# Altium schematic symbol library 05E_Diode.SchLib: 3 symbols
Pins are listed as number, name and electrical type; pins without a type are passive.

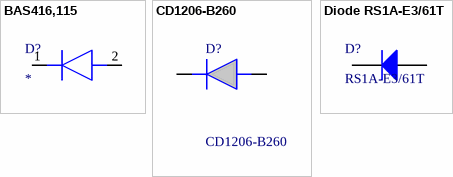
[diagram p0: symbols BAS416,115 to Diode RS1A-E3/61T]

## BAS416,115
designator D?
Diode; Manufacturer_Name: Nexperia; Manufacturer_Part_Number: BAS416,115; Datasheet Link: https://assets.nexperia.com/documents/data-sheet/BAS416.pdf; Height: 1.1mm; Mouser Part Number: 771-BAS416-T/R; Mouser Price/Stock: https://www.mouser.co.uk/ProductDetail/Nexperia/BAS416115?qs=me8TqzrmIYXN%2FT0VMI6NXg%3D%3D; Arrow Part Number: BAS416,115; Arrow Price/Stock: https://www.arrow.com/en/products/bas416115/nexperia?region=nac
footprint SOD323
pins: 1 K, 2 A

## CD1206-B260
designator D?
BOURNS - CD1206-B260 - DIODE, SCHOTTKY RECT, 60V, 2A, SMD; Geometry.Height: 1.16mm; Mouser Part Number: 652-CD1206-B260; Mouser Price/Stock: https://www.mouser.co.uk/ProductDetail/Bourns/CD1206-B260?qs=VNGG2InBe5GH7Tt0gN3c%2FQ%3D%3D; Manufacturer_Name: Bourns; Manufacturer_Part_Number: CD1206-B260; Datasheet Link: http://www.bourns.com/docs/Product-Datasheets/CD1206-B220_B2100.pdf
footprint 1206
pins: 1 K, 2 A

## Diode RS1A-E3/61T
designator D?, comment RS1A-E3/61T
Vishay General Semiconductor / 24V LV Reverse Voltage Protection Diode
footprint DO-214AC
pins: 1, 2